# EAGLE library part 61201021621 (library SCARA)
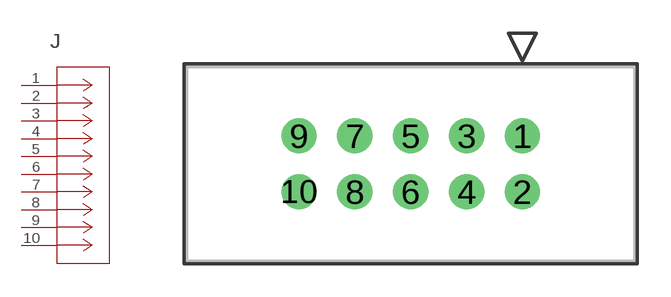
[diagram p3: symbol with the pads of CONN_61201021621_WRE; footprint CONN_61201021621_WRE]

Designator prefix J

## 61201021621 (BUILT_BY: EMA_Justin; COPYRIGHT: Copyright (C) 2018 Accelerated Designs. All rights reserved; MANUFACTURER_PART_NUMBER: 61201021621; SOURCELIBRARY: WURTH_2019-10-22; VENDOR: Wurth Electronics)  [CONN_61201021621_WRE]
1  1  pas
2  2  pas
3  3  pas
4  4  pas
5  5  pas
6  6  pas
7  7  pas
8  8  pas
9  9  pas
10  10  pas

## Footprint CONN_61201021621_WRE (pad centres in mm)
drill 1 pad 1.6: 1 0,0; 2 0,-2.54; 3 -2.54,0; 4 -2.54,-2.54; 5 -5.08,0; 6 -5.08,-2.54; 7 -7.62,0; 8 -7.62,-2.54; 9 -10.16,0; 10 -10.16,-2.54